# Altium schematic symbol library beagle_sdr9_1.SCHLIB: 62 symbols (part 1 of 2)
Pins are listed as number, name and electrical type; pins without a type are passive.

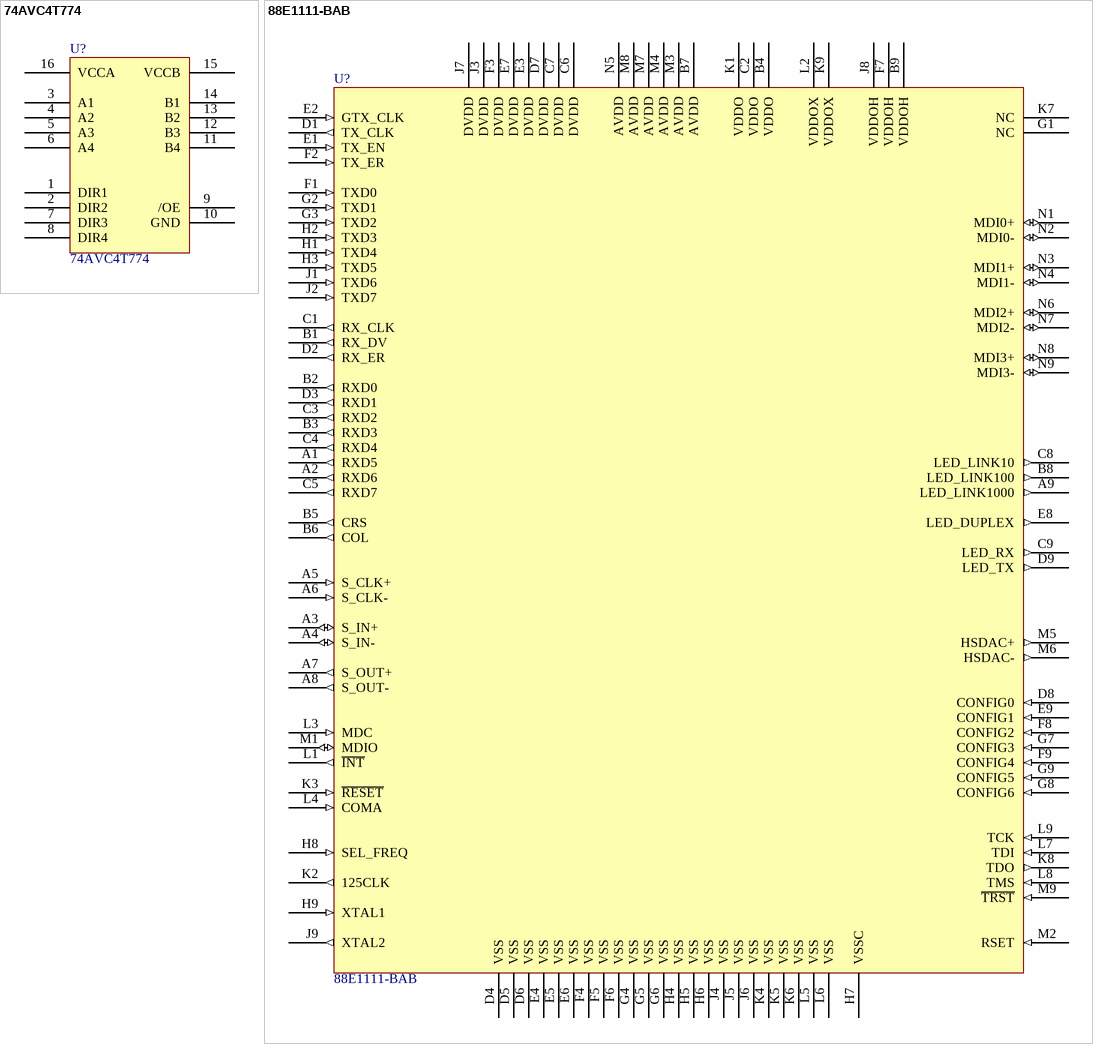
[diagram p0: symbols 74AVC4T774 to 88E1111-BAB]

## 74AVC4T774
designator U?
footprint TSSOP65P640X120-16N (TSSOP, 16 Leads, Body 5.1x4.5mm (max), Pitch 0.65mm, IPC Medium Density)
pins: 1 DIR1, 2 DIR2, 3 A1, 4 A2, 5 A3, 6 A4, 7 DIR3, 8 DIR4, 9 /OE, 10 GND, 11 B4, 12 B3, 13 B2, 14 B1, 15 VCCB, 16 VCCA

## 88E1111-BAB
designator U?
88E1111-BAB Gigabit Ethernet Transceiver (TFBGA package); Manufacturer: Marvell; Unit Cost: 14.038961038961; Part Number: 88E1111-BAB; Category: Integrated Circuit; Subcategory: Ethernet; Manufacturer Part Number: 88E1111-BAB; Supplier: Avnet; Supplier Part Number: 88E1111B2BAB1C000P123
footprint BGA_117_MARVELL
signal-integrity model Model Name (Model Description)
pins: A1 RXD5 (out), A2 RXD6 (out), A3 S_IN+ (io), A4 S_IN- (io), A5 S_CLK+ (in), A6 S_CLK- (in), A7 S_OUT+ (out), A8 S_OUT- (out), A9 LED_LINK1000 (out), B1 RX_DV (out), B2 RXD0 (out), B3 RXD3 (out), B4 VDDO (power), B5 CRS (out), B6 COL (out), B7 AVDD (power), B8 LED_LINK100 (out), B9 VDDOH (power), C1 RX_CLK (out), C2 VDDO (power), C3 RXD2 (out), C4 RXD4 (out), C5 RXD7 (out), C6 DVDD (power), C7 DVDD (power), C8 LED_LINK10 (out), C9 LED_RX (out), D1 TX_CLK (out), D2 RX_ER (out), D3 RXD1 (out), D4 VSS (power), D5 VSS (power), D6 VSS (power), D7 DVDD (power), D8 CONFIG0 (in), D9 LED_TX (out), E1 TX_EN (in), E2 GTX_CLK (in), E3 DVDD (power), E4 VSS (power), E5 VSS (power), E6 VSS (power), E7 DVDD (power), E8 LED_DUPLEX (out), E9 CONFIG1 (in), F1 TXD0 (in), F2 TX_ER (in), F3 DVDD (power), F4 VSS (power), F5 VSS (power), F6 VSS (power), F7 VDDOH (power), F8 CONFIG2 (in), F9 CONFIG4 (in), G1 NC, G2 TXD1 (in), G3 TXD2 (in), G4 VSS (power), G5 VSS (power), G6 VSS (power), G7 CONFIG3 (in), G8 CONFIG6 (in), G9 CONFIG5 (in), H1 TXD4 (in), H2 TXD3 (in), H3 TXD5 (in), H4 VSS (power), H5 VSS (power), H6 VSS (power), H7 VSSC (power), H8 SEL_FREQ (in), H9 XTAL1 (in), J1 TXD6 (in), J2 TXD7 (in), J3 DVDD (power), J4 VSS (power), J5 VSS (power), J6 VSS (power), J7 DVDD (power), J8 VDDOH (power), J9 XTAL2 (out), K1 VDDO (power), K2 125CLK (out), K3 ~{RESET} (in), K4 VSS (power), K5 VSS (power), K6 VSS (power), K7 NC, K8 TDO (out), K9 VDDOX (power), L1 ~{INT} (out), L2 VDDOX (power), L3 MDC (in), L4 COMA (in), L5 VSS (power), L6 VSS (power), L7 TDI (in), L8 TMS (in), L9 TCK (in), M1 MDIO (io), M2 RSET (in), M3 AVDD (power), M4 AVDD (power), M5 HSDAC+ (out), M6 HSDAC- (out), M7 AVDD (power), M8 AVDD (power), M9 ~{TRST} (in), N1 MDI0+ (io), N2 MDI0- (io), N3 MDI1+ (io), N4 MDI1- (io), N5 AVDD (power), N6 MDI2+ (io), N7 MDI2- (io), N8 MDI3+ (io), N9 MDI3- (io)

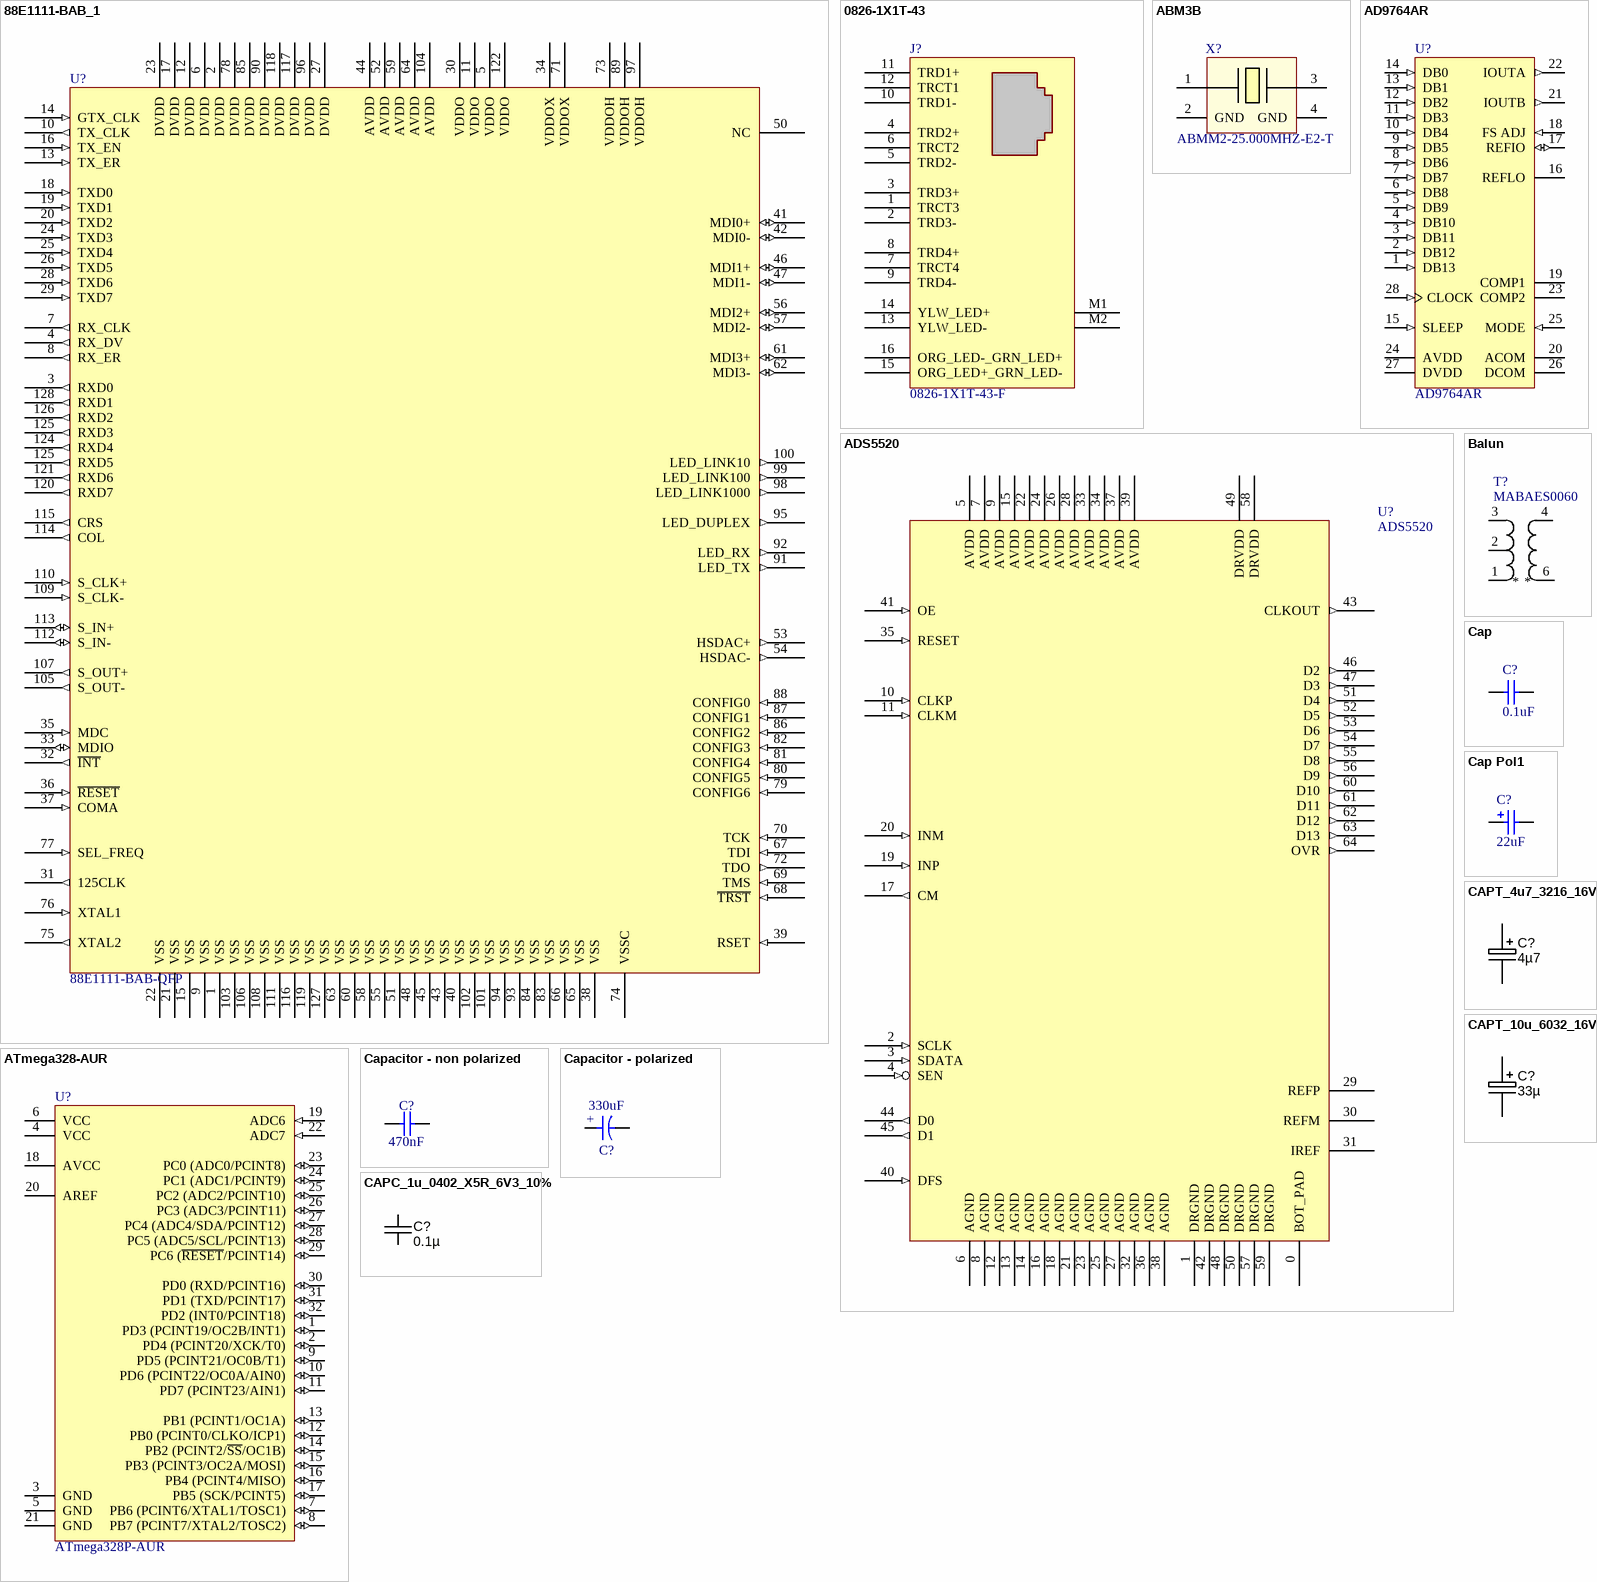
[diagram p1: symbols 88E1111-BAB_1 to CAPT_10u_6032_16V]

## 88E1111-BAB_1
designator U?, comment 88E1111-BAB-QFP
88E1111-BAB Gigabit Ethernet Transceiver (LQFP package); Manufacturer: Marvell; Unit Cost: 14.038961038961; Part Number: 88E1111-BAB; Category: Integrated Circuit; Subcategory: Ethernet; Manufacturer Part Number: 88E1111-BAB; Supplier: Avnet; Supplier Part Number: 88E1111B2BAB1C000P123
footprint LQFP128-20X14X16 (Footprint not found)
signal-integrity model Model Name (Model Description)
pins: 1 VSS (power), 2 DVDD (power), 3 RXD0 (out), 4 RX_DV (out), 5 VDDO (power), 6 DVDD (power), 7 RX_CLK (out), 8 RX_ER (out), 9 VSS (power), 10 TX_CLK (out), 11 VDDO (power), 12 DVDD (power), 13 TX_ER (in), 14 GTX_CLK (in), 15 VSS (power), 16 TX_EN (in), 17 DVDD (power), 18 TXD0 (in), 19 TXD1 (in), 20 TXD2 (in), 21 VSS (power), 22 VSS (power), 23 DVDD (power), 24 TXD3 (in), 25 TXD4 (in), 26 TXD5 (in), 27 DVDD (power), 28 TXD6 (in), 29 TXD7 (in), 30 VDDO (power), 31 125CLK (out), 32 ~{INT} (out), 33 MDIO (io), 34 VDDOX (power), 35 MDC (in), 36 ~{RESET} (in), 37 COMA (in), 38 VSS (power), 39 RSET (in), 40 VSS (power), 41 MDI0+ (io), 42 MDI0- (io), 43 VSS (power), 44 AVDD (power), 45 VSS (power), 46 MDI1+ (io), 47 MDI1- (io), 48 VSS (power), 50 NC, 51 VSS (power), 52 AVDD (power), 53 HSDAC+ (out), 54 HSDAC- (out), 55 VSS (power), 56 MDI2+ (io), 57 MDI2- (io), 58 VSS (power), 59 AVDD (power), 60 VSS (power), 61 MDI3+ (io), 62 MDI3- (io), 63 VSS (power), 64 AVDD (power), 65 VSS (power), 66 VSS (power), 67 TDI (in), 68 ~{TRST} (in), 69 TMS (in), 70 TCK (in), 71 VDDOX (power), 72 TDO (out), 73 VDDOH (power), 74 VSSC (power), 75 XTAL2 (out), 76 XTAL1 (in), 77 SEL_FREQ (in), 78 DVDD (power), 79 CONFIG6 (in), 80 CONFIG5 (in), 81 CONFIG4 (in), 82 CONFIG3 (in), 83 VSS (power), 84 VSS (power), 85 DVDD (power), 86 CONFIG2 (in), 87 CONFIG1 (in), 88 CONFIG0 (in), 89 VDDOH (power), 90 DVDD (power), 91 LED_TX (out), 92 LED_RX (out), 93 VSS (power), 94 VSS (power), 95 LED_DUPLEX (out), 96 DVDD (power), 97 VDDOH (power), 98 LED_LINK1000 (out), 99 LED_LINK100 (out), 100 LED_LINK10 (out), 101 VSS (power), 102 VSS (power), 103 VSS (power), 104 AVDD (power), 105 S_OUT- (out), 106 VSS (power), 107 S_OUT+ (out), 108 VSS (power), 109 S_CLK- (in), 110 S_CLK+ (in), 111 VSS (power), 112 S_IN- (io), 113 S_IN+ (io), 114 COL (out), 115 CRS (out), 116 VSS (power), 117 DVDD (power), 118 DVDD (power), 119 VSS (power), 120 RXD7 (out), 121 RXD6 (out), 122 VDDO (power), 124 RXD4 (out), 125 RXD5 (out), 125 RXD3 (out), 126 RXD2 (out), 127 VSS (power), 128 RXD1 (out)

## 0826-1X1T-43
designator J?, comment 0826-1X1T-43-F
Bel Fuse 0826-1X1T-43-F Gigabit RJ45 jack with magnetics & LEDs; Unit Cost: 4.42; Part Number: 0826-1X1T-43-F; Category: Connector; Subcategory: RJ45; Manufacturer: Bel Fuse; Manufacturer Part Number: 0826-1X1T-43-F; Supplier: Digikey; Supplier Part Number: 507-1432-ND; RoHS: Yes
footprint BELFUSE_0826-1X1T-43-F
pins: 1 TRCT3, 2 TRD3-, 3 TRD3+, 4 TRD2+, 5 TRD2-, 6 TRCT2, 7 TRCT4, 8 TRD4+, 9 TRD4-, 10 TRD1-, 11 TRD1+, 12 TRCT1, 13 YLW_LED-, 14 YLW_LED+, 15 ORG_LED+_GRN_LED-, 16 ORG_LED-_GRN_LED+, M1, M2

## ABM3B
designator X?, comment ABMM2-25.000MHZ-E2-T
25MHz 18pF 20ppm crystal (surface mount); Manufacturer: Abracon; Unit Cost: 1.28; Part Number: ABMM2-25.000MHZ-E2-T; Category: Semiconductor; Subcategory: Crystal; Manufacturer Part Number: ABMM2-25.000MHZ-E2-T; Supplier: Digikey; Supplier Part Number: 535-9640-1-ND
footprint XTAL_SMD_ABM3B
pins: 1, 2 GND, 3, 4 GND

## AD9764AR
designator U?
Single 14-Bit TxDAC, 125 Msps, -40 to +85 degC, RW-28, Tube; ADI Part Number: AD9764; Manufacturer: Analog Devices; # DAC Outputs: 1; Max V+: 5.5V; Op Pwr Diss: 170mW; Resolution (Bits): 14; Settling Time: 35ns; Single Supply: Yes; DatasheetVersion: Rev.B; PackageVersion: 060706-A; PackageReference: RW-28; PackageDescription: 28-Lead Standard Small Outline Package [SOIC_W]; Packing: Tube; RoHS: N; Mounting Technology: Surface Mount; Code_JEDEC: MS-013-AE; ComponentLink1Description: Manufacturer URL; ComponentLink1URL: http://www.analog.com/en/index.html; ComponentLink2Description: Datasheet; ComponentLink2URL: http://www.analog.com/static/imported-files/data_sheets/AD9764.pdf; ComponentLink3Description: URL Link1; ComponentLink3URL: Product URL:http://www.analog.com/en/digital-to-analog-converters/da-converters/ad9764/products/product.html
footprint TSSOP-28
footprint RW-28_L (SOIC, 28-Leads, Body 17.9x7.5mm, Pitch 1.27mm, IPC High Density)
footprint RW-28_M (SOIC, 28-Leads, Body 17.9x7.5mm, Pitch 1.27mm, IPC Low Density)
pins: 1 DB13 (in) "Most Significant Data Bit 13 (MSB).", 2 DB12 (in) "Data Bit 12.", 3 DB11 (in) "Data Bit 11.", 4 DB10 (in) "Data Bit 10.", 5 DB9 (in) "Data Bit 9.", 6 DB8 (in) "Data Bit 8.", 7 DB7 (in) "Data Bit 7.", 8 DB6 (in) "Data Bit 6.", 9 DB5 (in) "Data Bit 5.", 10 DB4 (in) "Data Bit 4.", 11 DB3 (in) "Data Bit 3.", 12 DB2 (in) "Data Bit 2.", 13 DB1 (in) "Data Bit 1.", 14 DB0 (in) "Least Significant Data Bit 0 (LSB).", 15 SLEEP (in) "Power-Down Control Input. Active High. Contains active pull-down circuit, thus may be left unterminated if not used.", 16 REFLO "Reference Ground when Internal 1.2 V Reference Used. Connect to AVDD to disable internal reference.", 17 REFIO (io) "Reference Input/Output. Serves as reference input when internal reference disabled (i.e., Tie REFLO to AVDD). Serves as 1.2 V reference output when internal reference activated (i.e., Tie REFLO to ACOM). Requires 0.1 µF (See Datasheet)", 18 FS ADJ (in) "Full-Scale Current Output Adjust.", 19 COMP1 "Bandwidth/Noise Reduction Node. Add 0.1 µF to AVDD for optimum performance.", 20 ACOM (power) "Analog Common.", 21 IOUTB (out) "Complementary DAC Current Output. Full-scale current when all data bits are 0s.", 22 IOUTA (out) "DAC Current Output. Full-scale current when all data bits are 1s.", 23 COMP2 "Internal Bias Node for Switch Driver Circuitry. Decouple to ACOM with 0.1 µF capacitor.", 24 AVDD (power) "Analog Supply Voltage (+2.7 V to +5.5 V).", 25 MODE (in), 26 DCOM (power) "Digital Common.", 27 DVDD (power) "Digital Supply Voltage (+2.7 V to +5.5 V).", 28 CLOCK (in) "Clock Input.  Data latched on positive edge of clock."

## ADS5520
designator U?
ADC 12BIT 125MSPS; Manufacturer: Texas Instruments; Manufacturer Part Number: ADS5520IPAP; Distributor: Digikey; Distributor Part Number: 296-17702-ND
footprint HQFP64
pins: 0 BOT_PAD (power), 1 DRGND (power), 2 SCLK (in), 3 SDATA (in), 4 SEN (in), 5 AVDD (power), 6 AGND (power), 7 AVDD (power), 8 AGND (power), 9 AVDD (power), 10 CLKP (in), 11 CLKM (in), 12 AGND (power), 13 AGND (power), 14 AGND (power), 15 AVDD (power), 16 AGND (power), 17 CM (out), 18 AGND (power), 19 INP (in), 20 INM (in), 21 AGND (power), 22 AVDD (power), 23 AGND (power), 24 AVDD (power), 25 AGND (power), 26 AVDD (power), 27 AGND (power), 28 AVDD (power), 29 REFP, 30 REFM, 31 IREF, 32 AGND (power), 33 AVDD (power), 34 AVDD (power), 35 RESET (in), 36 AGND (power), 37 AVDD (power), 38 AGND (power), 39 AVDD (power), 40 DFS (in), 41 OE (in), 42 DRGND (power), 43 CLKOUT (out), 44 D0 (out), 45 D1 (out), 46 D2 (out), 47 D3 (out), 48 DRGND (power), 49 DRVDD (power), 50 DRGND (power), 51 D4 (out), 52 D5 (out), 53 D6 (out), 54 D7 (out), 55 D8 (out), 56 D9 (out), 57 DRGND (power), 58 DRVDD (power), 59 DRGND (power), 60 D10 (out), 61 D11 (out), 62 D12 (out), 63 D13 (out), 64 OVR (out)

## ATmega328-AUR
designator U?, comment ATmega328P-AUR
8-bit AVR Microcontroller, 32KB Flash, 1KB EEPROM, 2KB SRAM, 32-pin TQFP, Industrial Grade (-40°C to 85°C); Published: 1-Apr-2010; DatasheetVersion: revA, Jan-2010; PackageVersion: revB, Oct-2001; PackageReference: 32A; Publisher: Altium Limited; PackageDescription: 32-Lead, 7x7x1.0 mm Body, 0.8mm Lead Pitch, Thin Profile Plastic Quad Flat Package (TQFP); Supplier 1: Digi-Key; Supplier Part Number 1: ATMEGA328P-AUR-ND; Supplier 2: Mouser; Supplier Part Number 2: 556-ATMEGA328P-AUR; Code_JEDEC: MS-026-ABA; ComponentLink1Description: Manufacturer Link; ComponentLink1URL: http://www.atmel.com/products/avr/default.asp?; ComponentLink2Description: ATmega48A/48PA/88A/88PA/168A/168PA/328/328P Datasheet; ComponentLink2URL: http://www.atmel.com/dyn/resources/prod_documents/8271.pdf; ComponentLink3Description: ATmega48A/48PA/88A/88PA/168A/168PA/328/328P Summary; ComponentLink3URL: http://www.atmel.com/dyn/resources/prod_documents/8271S.pdf; ComponentLink4Description: Atmel.com Home; ComponentLink4URL: http://www.atmel.com
footprint 32A_N (Thin QFP, 32-Leads, Body 7x7mm, Pitch 0.8mm, IPC Medium Density)
footprint 32A_L (Thin QFP, 32-Leads, Body 7x7mm, Pitch 0.8mm, IPC High Density)
footprint 32A_M (Thin QFP, 32-Leads, Body 7x7mm, Pitch 0.8mm, IPC Low Density)
pins: 1 PD3 (PCINT19/OC2B/INT1) (io), 2 PD4 (PCINT20/XCK/T0) (io), 3 GND (power), 4 VCC (power), 5 GND (power), 6 VCC (power), 7 PB6 (PCINT6/XTAL1/TOSC1) (io), 8 PB7 (PCINT7/XTAL2/TOSC2) (io), 9 PD5 (PCINT21/OC0B/T1) (io), 10 PD6 (PCINT22/OC0A/AIN0) (io), 11 PD7 (PCINT23/AIN1) (io), 12 PB0 (PCINT0/CLKO/ICP1) (io), 13 PB1 (PCINT1/OC1A) (io), 14 PB2 (PCINT2/~{SS}/OC1B) (io), 15 PB3 (PCINT3/OC2A/MOSI) (io), 16 PB4 (PCINT4/MISO) (io), 17 PB5 (SCK/PCINT5) (io), 18 AVCC (power), 19 ADC6 (in), 20 AREF, 21 GND (power), 22 ADC7 (in), 23 PC0 (ADC0/PCINT8) (io), 24 PC1 (ADC1/PCINT9) (io), 25 PC2 (ADC2/PCINT10) (io), 26 PC3 (ADC3/PCINT11) (io), 27 PC4 (ADC4/SDA/PCINT12) (io), 28 PC5 (ADC5/SCL/PCINT13) (io), 29 PC6 (~{RESET}/PCINT14) (io), 30 PD0 (RXD/PCINT16) (io), 31 PD1 (TXD/PCINT17) (io), 32 PD2 (INT0/PCINT18) (io)

## Balun
designator T?, comment MABAES0060
Manufacturer: Mini-Circuits; Part Description: RF balun 0.3-200Mhz; Manufacturer Part Number 1: MABAES0060; Supplier Part Number 1: 1465-1317-1-ND; Supplier 1: digikey
footprint MABAES0060
pins: 1, 2, 3, 4, 6

## Cap
designator C?, comment 0.1uF
Capacitor; Manufacturer: Panasonic; Manufacturer Part Number: ECJ-2VF1C104Z; Published: 8-Jun-2000; Revision: July-2002: Re-released for DXP Platform.; Publisher: Altium Limited; Value: 0.1uF; Distributor: Digikey; Distributor Part Number: PCC1843CT-ND
footprint CC2012-0805
footprint CAPC1005X55N
pins: 1, 2

## Cap Pol1
designator C?, comment 22uF
Polarized Capacitor (Radial); Manufacturer: Panasonic; Manufacturer Part Number: ECE-A1HKA220; Published: 8-Jun-2000; Revision: July-2002: Re-released for DXP Platform.; Publisher: Altium Limited; Value: 22uF; Distributor: Digikey; Distributor Part Number: P837-ND
footprint CAPMP3216X180N (Capacitor, polarized, Molded Body, EIA 535BAAC size A; 3.20mm L X 1.60mm W X 1.80mm H)
pins: 1, 2

## Capacitor - non polarized
designator C?, comment 470nF
Non-polarised capacitor; Part Number: CC0201_470NF_4V_20%_X5R; Part Description: SMD Multilayer Chip Ceramic Capacitor; Manufacturer: GENERIC; Manufacturer1 Part Number: AMK063BJ474MP-F; Voltage: 4V; TC: X5R; Tolerance: ±20%; Component Kind: Standard; Component Type: Standard; Footprint: CAPC0603X33N; Pin Count: 2; Value: 470nF; Status: Not Recommended; Manufacturer Part Number: CC0201_470NF_4V_20%_X5R; Case: 0201; Mounted: Yes; Socket: No; SMD: Yes; Sense: No; Manufacturer1 Example: TAIYO YUDEN; Manufacturer1 ComponentHeight: 0.33mm; HelpURL: \\cern.ch\dfs\Applications\Altium\Datasheets\CC0201_X5R_TAIYO-YUDEN_STANDARD-CLASS2.pdf; Author: CERN DEM JLC; CreateDate: 27.05.2010; LatestRevisionDate: 27.05.2010
footprint CAP_CER_0402_KEMET (Chip Capacitor, 2-Leads, Body 1.0x0.5mm, IPC Medium Density)
pins: 1, 2

## Capacitor - polarized
designator C?, comment 330uF
Polarised capacitor; Part Number: CTE7343-19_330UF_2.5V_20%_LESR0025_KEMET_T520; Part Description: Low ESR 0R025 Tantalum Chip Capacitor; Manufacturer: KEMET; Manufacturer Part Number: T520V337M2R5ATE025; Voltage: 2.5V; Tolerance: ±20%; Component Kind: Standard; Component Type: Standard; Footprint: CAPMP7343X190N; Pin Count: 2; Value: 330uF; Status: None; Case: V; Mounted: Yes; Socket: No; SMD: Yes; Sense: No; ComponentHeight: 1.9mm; HelpURL: \\cern.ch\dfs\Applications\Altium\Datasheets\CTE-LESR_KEMET_T520.pdf; Author: CERN DEM MR; CreateDate: 23.03.2016; LatestRevisionDate: 23.03.2016
footprint CAP_TANT_D_KEMET
pins: 1, 2
text: +

## CAPC_1u_0402_X5R_6V3_10%
designator C?, comment 0.1µ
Capacitor SMD Cer 1uF 10% 16V X5R 0402; Manufacturer 1: AVX Corporation; Manufacturer Part Number 1: 04026D105KAT2A; Ratings: 6.3V; X5R; SCDType: spec; Tolerance: ±10%; Operating Temperature: -55°C ~ 125°C; Package / Case: 0402 (1005 Metric); Size / Dimension: 0.039" L x 0.020" W (1.00mm x 0.50mm); Supplier 1: Digi-Key; Supplier Part Number 1: 478-2583-1-ND; RoHS 1: RoHS Compliant; ComponentLink1URL: http://www.avx.com/docs/Catalogs/cx5r.pdf; ComponentLink1Description: http://www.avx.com/docs/Catalogs/cx5r.pdf; Supplier 2: Digi-Key; Supplier Part Number 2: 311-1438-1-ND; Manufacturer 2: Yageo; Manufacturer Part Number 2: CC0402KRX5R5BB105; RoHS 2: RoHS Compliant; ComponentLink2URL: http://www.yageo.com/documents/recent/UPY-GPHC_X5R_4V-to-50V_12.pdf; ComponentLink2Description: http://www.yageo.com/documents/recent/UPY-GPHC_X5R_4V-to-50V_12.pdf; Supplier 3: Digi-Key; Supplier Part Number 3: 1276-1010-1-ND; Manufacturer 3: Samsung Electro-Mechanics America, Inc; Manufacturer Part Number 3: CL05A105KQ5NNNC; RoHS 3: RoHS Compliant; ComponentLink3URL: http://www.samsungsem.com/servlet/FileDownload?path=productsearch&sname=CL05A105KQ5NNNC.pdf&oname=CL05A105KQ5NNNC.pdf; ComponentLink3Description: http://www.samsungsem.com/servlet/FileDownload?path=productsearch&sname=CL05A105KQ5NNNC.pdf&oname=CL05A105KQ5NNNC.pdf; Supplier 4: Digi-Key; Supplier Part Number 4: 445-4998-1-ND; Manufacturer 4: TDK Corporation; Manufacturer Part Number 4: C1005X5R0J105K050BB; RoHS 4: RoHS Compliant; ComponentLink4URL: http://product.tdk.com/capacitor/mlcc/en/documents/mlcc_commercial_general_en.pdf; ComponentLink4Description: http://product.tdk.com/capacitor/mlcc/en/documents/mlcc_commercial_general_en.pdf; Supplier 5: Digi-Key; Supplier Part Number 5: 490-1320-1-ND; Manufacturer 5: Murata Electronics North America; Manufacturer Part Number 5: GRM155R60J105KE19D; RoHS 5: RoHS Compliant; ComponentLink5URL: http://www.murata.com/products/catalog/pdf/c02e.pdf; ComponentLink5Description: http://www.murata.com/products/catalog/pdf/c02e.pdf; Value: 0.1µ
footprint CAPC1005X55N (Chip Capacitor, Body 1.0x0.5mm, 0402, IPC Medium Density)
pins: 1, 2

## CAPT_4u7_3216_16V
designator C?, comment 4µ7
Capacitor SMD Tantalum 4.7uF 10% 16V 3216-18; Manufacturer 1: Vishay/Sprague; Manufacturer Part Number 1: 293D475X9016A2TE3; SCDType: undef; Package / Case: EIA 535BAAC size A; Ratings: 16V; Tolerance: ±10%; Material: Tantalum; Supplier 1: Digi-Key; Supplier Part Number 1: 718-1148-1-ND; Value: 4µ7
footprint CAPMP3216X180N (Capacitor, polarized, Molded Body, EIA 535BAAC size A; 3.20mm L X 1.60mm W X 1.80mm H)
pins: 1, 2

## CAPT_10u_6032_16V
designator C?, comment value 33µ  (hidden comment: approved sub OK)
Capacitor SMD Tantalum 10uF 20% 16V EIA 6032-28; Manufacturer 1: Vishay/Sprague; Manufacturer Part Number 1: 293D106X0016C2TE3; SCDType: undef; Package / Case: EIA 6032-28; Tolerance: ±20%; Ratings: 16V; Material: Tantalum; Supplier 1: Digi-Key; Supplier Part Number 1: 718-1042-1-ND
footprint CAPMP6032X280N (Capacitor, polarized, Molded Body, EIA 535BAAC size C; 6.00mm L X 3.20mm W X 2.80mm H)
pins: 1, 2

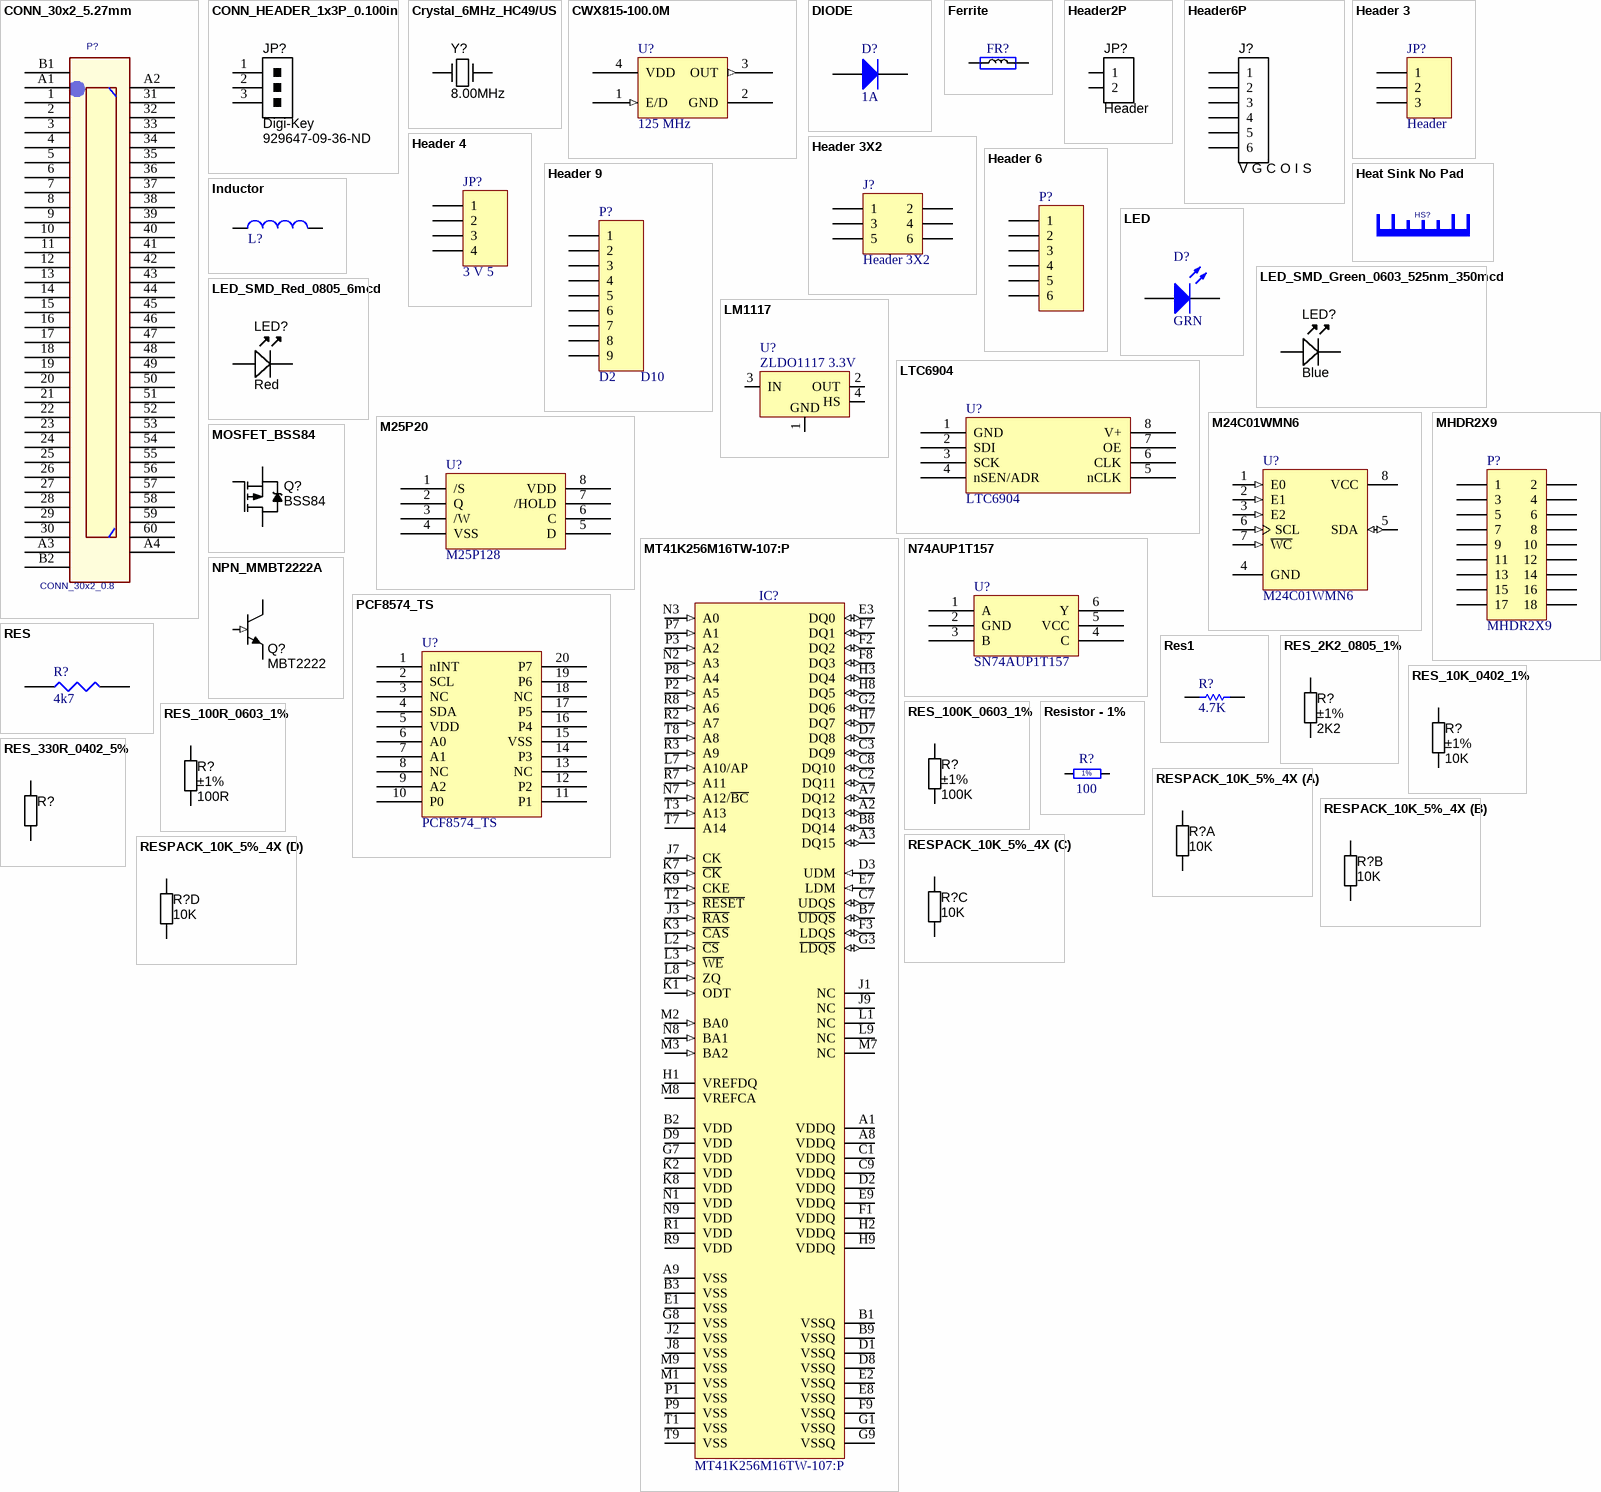
[diagram p2: symbols CONN_30x2_5.27mm to RESPACK_10K_5%_4X]

## CONN_30x2_5.27mm
designator P?, comment CONN_30x2_0.8
Hirose FX18-60S-0.8SV15
footprint FX18-60S-0.8SV15
pins: 1, 2, 3, 4, 5, 6, 7, 8, 9, 10, 11, 12, 13, 14, 15, 16, 17, 18, 19, 20, 21, 22, 23, 24, 25, 26, 27, 28, 29, 30, 31, 32, 33, 34, 35, 36, 37, 38, 39, 40, 41, 42, 43, 44, 45, 46, 47, 48, 49, 50, 51, 52, 53, 54, 55, 56, 57, 58, 59, 60, A1, A2, A3, A4, B1, B2

## CONN_HEADER_1x3P_0.100in
designator JP?, comment Supplier 1: Digi-Key  Supplier Part Number 1: 929647-09-36-ND  (hidden comment: R T G)
Pin Header, THT, Single-row, 2.54mm pitch; Manufacturer 1: 3M; Manufacturer Part Number 1: 929647-09-36-I; Pitch: 0.100" (2.54mm); Value: Single-row, 3 positions; QtyOverride: 0.1; SCDType: undef; Category: Connectors; Mounting Type: Through Hole; Terminal Block Type: Header, Male Pins, Single; Package / Case: Pin header; 2.54mm pitch
footprint 1x3POS_HEADER (Connector Header, Single-row 3-position, 0.100" pitch)
pins: 1, 2, 3

## Crystal_6MHz_HC49/US
designator Y?, comment 8.00MHz
Resonator Ceramic 8.00 MHz 30ppm; Manufacturer 1: CTS-Frequency Controls; Manufacturer Part Number 1: ATS080BSM-1; Frequency: 8MHz; Frequency Stability: ±50ppm; Load Capacitance: 18pF; Operating Mode: Fundamental; Parameter Name: 0.169" (4.30mm); Package / Case: HC49/US-SM; Ratings: 8.00 MHz; Supplier 1: Digi-Key; Type: 8 MHz Crystal; Frequency Tolerance: ±30ppm; Operating Temperature: -20°C ~ 70°C; Mounting Type: Surface Mount; Size / Dimension: 0.437" L x 0.190" W (11.10mm x 4.83mm); ComponentLink1URL: http://www.ctscorp.com/components/Datasheets/008-0309-0.pdf; ComponentLink1Description: http://www.ctscorp.com/components/Datasheets/008-0309-0.pdf
footprint CRYSTAL_HC49-US-SM (SMD Crystal HC49/US-SM package)
pins: 1 IN, 2 OUT

## CWX815-100.0M
designator U?, comment 125 MHz
CWX815-125.0M; Part No.: CW585TR-ND; Manufacturer: Citizen America; Manufacturer Part Number: CWX815-100.0M; Distributor: Digikey
footprint CSX750FB (CRYSTAL CLOCK OSCILLATORS; 4 Leads; Body 7 x 5 x 1.6 mm)
pins: 1 E/D (in), 2 GND, 3 OUT (out), 4 VDD (power)

## DIODE
designator D?, comment 1A
DB2J31700L 30V 1A Diode (SMINI2 package); Manufacturer: Panasonic; Unit Cost: 0.296; Part Number: DB2J31700L; Category: Semiconductor; Subcategory: Diode; Manufacturer Part Number: DB2J31700L; Supplier: Digikey; Supplier Part Number: DB2J31700LCT-ND; RoHS: Yes; Stock Quantity: 10
footprint DIODE_SMINI2-F5-B
pins: 1 K, 2 A

## Ferrite
designator FR?  (value not drawn)
Manufacturer Part Number 1: BK0603TS601-T; Manufacturer: Taiyo Yuden; Part Description: FERRITE BEAD 600 OHM 0201 1LN; DC Resistance (DCR): 750 mOhm Max; Filter Type: Differential Mode - Single; Impedance @ Frequency: 600 Ohm @ 100MHz; Current Rating: 270mA; Value: 600R@100MHz; Supplier 1: Digi-Key; Supplier Part Number 1: 587-3277-1-ND; Size / Dimension: 0.024" L x 0.012" W (0.60mm x 0.30mm); Package / Case: 0201 (0603 Metric); Height (Max): 0.013" (0.33mm); Mounting Type: Surface Mount; Packaging: Cut Tape (CT); RoHS: RoHS Compliant; Category: Filters
footprint C0603 (0603 Generic)
pins: 1, 2

## Header2P
designator JP?, comment Header  (no BOM)
12V  G
footprint HDR_1x2_Offset
footprint HDR_1X2X276
pins: 1, 2

## Header6P
designator J?, comment V G C O I S  (no BOM)
Header, 6-pin, FPGA_JTAG
footprint HDR1X6 (Connector; Header; 6 Position)
pins: 1, 2, 3, 4, 5, 6

## Header 3
designator JP?, comment Header
Header, 3-Pin; LatestRevisionDate: 17-Jul-2002; LatestRevisionNote: Re-released for DXP Platform.; Publisher: Altium Limited
footprint HDR1X3 (Connector; Header; 3 Position)
signal-integrity model Connector
pins: 1, 2, 3

## Header 3X2
designator J?
Header, 3-Pin, Dual row; LatestRevisionDate: 17-Jul-2002; LatestRevisionNote: Re-released for DXP Platform.; Publisher: Altium Limited
footprint HDR2X3 (Connector; Header; 3x2 Position)
signal-integrity model Connector
pins: 1, 2, 3, 4, 5, 6

## Header 4
designator JP?, comment 3 V 5
Header, 4-Pin; LatestRevisionDate: 17-Jul-2002; LatestRevisionNote: Re-released for DXP Platform.; Publisher: Altium Limited
footprint HDR1X4 (Connector; Header; 4 Position)
signal-integrity model Connector
pins: 1, 2, 3, 4

## Header 6
designator P?
Header, 6-Pin; LatestRevisionDate: 17-Jul-2002; LatestRevisionNote: Re-released for DXP Platform.; Publisher: Altium Limited
footprint HDR1X6 (Connector; Header; 6 Position)
signal-integrity model Connector
pins: 1, 2, 3, 4, 5, 6

## Header 9
designator P?, comment D2       D10
Header, 9-Pin; LatestRevisionDate: 17-Jul-2002; LatestRevisionNote: Re-released for DXP Platform.; Publisher: Altium Limited
footprint HDR1X9 (Connector; Header; 9 Position)
signal-integrity model Connector
pins: 1, 2, 3, 4, 5, 6, 7, 8, 9

## Heat Sink No Pad
designator HS?  (value not drawn)
Heat Sink Without Pad; Manufacturer: Fischer Elektronik; Manufacturer Part Number: ICK BGA 23 x 23 x 10; Part Description: 23 x 23 x 10 mm, heatsink for IC design BGA and others; ComponentHeight: 10 mm; HelpURL: http://www.fischerelektronik.de/web_fischer/en_GB/heatsinks/B02/Heatsinks%20for%20BGAs/PR/ICKBGA23x23x10_/$productCard/parameters/datasheet.xhtml
footprint ICK BGA 23 x 23 x 10 (23 x 23 x 10 mm, heatsink for IC design BGA and others)

## Inductor
designator L?  (value not drawn)
Ferrite Bead 100mR 500mA (0603 package); Part Number: BEAD-500mA-0603; Manufacturer: Panasonic; Manufacturer Part Number: EXC-3BP121H; Unit Cost: 0.172; Category: Windings; Subcategory: Bead; Supplier: Digikey; Supplier Part Number: P10750CT-ND
footprint IND_CHIP_0603_PAN
pins: 1, 2

## LED
designator D?, comment GRN
Green LED, diffused, surface mount (0805 package); Part Number: LED-0805-GRN; Manufacturer: OSRAM Opto Semiconductors; Manufacturer Part Number: LG R971; Unit Cost: 0.11; Category: Semiconductor; Subcategory: LED; Supplier: Digikey; Supplier Part Number: 475-1410-1-ND
footprint LED_0805_OSRAM_R97x
pins: 1 K, 2 A

## LED_SMD_Green_0603_525nm_350mcd
designator LED?, comment Blue
LED 0603 SMD Green 525nm 350mcd 20mA; Manufacturer 1: Kingbright; Manufacturer Part Number 1: APT1608ZGCK; Material: InGaN; Ratings: 200mcd min; 350 mcd typ @ 20mA; Voltage - Forward (Vf) @ 10mA: 3.1V; Viewing Angle: 120°; Lens Style/Size: Rectangle with Flat Top, 1.2mm x 0.8mm; Voltage - Forward (Vf) @ 20mA: 3.3V; SCDType: source; Package / Case: 0603 (1608 metric); Color: Green; Current - Test: 20mA; Manufacturer 2: Kingbright Company LLC; Manufacturer Part Number 2: APT1608-WAP24; Supplier 1: Mouser; Supplier Part Number 1: 604-APT1608ZGCK; ComponentLink1URL: http://www.mouser.com/ds/2/216/APT1608ZGCK-262051.pdf; ComponentLink1Description: http://www.mouser.com/ds/2/216/APT1608ZGCK-262051.pdf; ComponentLink2Description: APT1608-WAP24 Datasheet; ComponentLink2URL: \\SVFI2\PBLShare\Eng\Electrical Engineering\Hardware\Altium\Libraries and Templates\Unreleased Components\Part Number Request 2013-10-02\APT1608-WAP24(Ver.1B).pdf
footprint LED-0603-BLUE
pins: A, K

## LED_SMD_Red_0805_6mcd
designator LED?  Color: Red
LED 0805 SMD Red 6mcd 621nm; Manufacturer 1: Lite-On Inc; Manufacturer Part Number 1: LTST-C171EKT; Material: GaAsP on GaP; Ratings: 6 mcd; 621 nm; SCDType: source; Package / Case: 0805; Supplier 1: Digi-Key; Supplier Part Number 1: 160-1422-1-ND; Value: Red
footprint LED-0603-RED
pins: A, K

## LM1117
designator U?, comment ZLDO1117 3.3V
Power
footprint SOT223 (SOT223, 4-Leads, Body 6.7x7.3mm (max), Pitch 2.29mm, IPC Medium Density)
pins: 1 GND (power), 2 OUT (power), 3 IN (power), 4 HS (power)

## LTC6904
designator U?
footprint SOP65P490X109-8N (SOP, 0.65mm pitch, 8 pin, Body 3.0x3.0x1.09mm LWH, IPC Medium Density)
pins: 1 GND, 2 SDI, 3 SCK, 4 nSEN/ADR, 5 nCLK, 6 CLK, 7 OE, 8 V+

## M24C01WMN6
designator U?
1Kbit Serial I2C Bus EEPROM; Published: 24-Aug-2001; LatestRevisionDate: 13-Apr-2006; LatestRevisionNote: IPC-7351 Footprint Added.; DatasheetVersion: Sep-1999; PackageVersion: Jul-1999; PackageReference: SOP8; Publisher: Altium Limited; PackageDescription: 8-Pin Small Outline Integrated Circuit 1.27 mm Pitch; ComponentLink1Description: Manufacturer Link; ComponentLink1URL: http://www.st.com/; ComponentLink2Description: Datasheet; ComponentLink2URL: http://www.st.com/stonline/products/literature/ds/5067/m24c01-r.pdf
footprint SOP8_N (SOIC, 8-Leads, Body 4.9x3.9mm, Pitch 1.27mm, IPC Medium Density)
footprint SOP8_L (SOIC, 8-Leads, Body 4.9x3.9mm, Pitch 1.27mm, IPC High Density)
footprint SOP8_M (SOIC, 8-Leads, Body 4.9x3.9mm, Pitch 1.27mm, IPC Low Density)
3D model SOP8 (8-Pin Small Outline Integrated Circuit 1.27 mm Pitch)
pins: 1 E0 (in), 2 E1 (in), 3 E2 (in), 4 GND (power), 5 SDA (io), 6 SCL (in), 7 ~{WC} (in), 8 VCC (power)

## M25P20
designator U?, comment M25P128
MICRON M25P40 3V 4Mb Serial Flash Embedded  Memory
footprint SOIC127P600X175-8AN (SOIC, 8-Leads, Body 4.9x3.9mm, Pitch 1.27mm, IPC Medium Density)
pins: 1 /S, 2 Q, 3 /W, 4 VSS, 5 D, 6 C, 7 /HOLD, 8 VDD

## MHDR2X9
designator P?
Header, 9-Pin, Dual row; LatestRevisionDate: 17-Jul-2002; LatestRevisionNote: Re-released for DXP Platform.; Publisher: Altium Limited
footprint MHDR2X9 (Connector; Header; 9x2 Position)
signal-integrity model Connector
pins: 1, 2, 3, 4, 5, 6, 7, 8, 9, 10, 11, 12, 13, 14, 15, 16, 17, 18

## MOSFET_BSS84
designator Q?, comment BSS84
MOSFET SMD P-CH 50V 130mA SOT23-3; Manufacturer 1: Fairchild Semiconductor; Ratings: 50V; 130mA; Material: Metal Oxide; FET Type: MOSFET P-Channel, Metal Oxide; FET Feature: Logic Level Gate; Rds On (Max) @ Id, Vgs: 10 Ohm @ 100mA, 5V; Vgs(th) (Max) @ Id: 2V @ 1mA; Gate Charge (Qg) @ Vgs: 1.3nC @ 5V; Input Capacitance (Ciss) @ Vds: 73pF @ 25V; Power - Max: 360mW; SCDType: undef; Package / Case: SOT23-3; Supplier 1: Digi-Key; Supplier Part Number 1: BSS84CT-ND; Manufacturer Part Number 1: BSS84; Drain to Source Voltage (Vdss): 50V; Current - Continuous Drain (Id) @ 25° C: 130mA; Supplier Device Package: SOT-23; ComponentLink1URL: http://www.fairchildsemi.com/ds/BS/BSS84.pdf; ComponentLink1Description: http://www.fairchildsemi.com/ds/BS/BSS84.pdf
footprint SOT23-3 (SOT23, 3 pin)
pins: 1 G, 2 S, 3 D

## MT41K256M16TW-107:P
designator IC?
32 Meg x 16 x 8 Banks DDR3L SDRAM; Part Description: +1.5V, 4Gb (32Meg x 16 x 8 banks) DDR3L SDRAM; Manufacturer: MICRON TECHNOLOGY; PressFit: No; Bonding: No; Part Number: MT41K256M16TW-107:P; Component Kind: Standard; Component Type: Standard; Device: MT41K256M16TW-107:P; Footprint: BGA96C80P9X16_800X1400X120; PackageDescription: BGA 0.8mm, Pitch, Square 96 Pin, 9 Columns x 16 Rows, Body 14mm X 8mm X 1.2mm H; Manufacturer Part Number: MT41K256M16TW-107:P; Pin Count: 96; Case: BGA96; Mounted: Yes; Socket: No; SMD: Yes; Sense: No; ComponentHeight: 1.2mm; HelpURL: \\cern.ch\dfs\Applications\Altium\Datasheets\MT41K256M16TW-107-P.pdf; Author: CERN DEM MR; CreateDate: 2015-12-14; LatestRevisionDate: 2015-12-14
footprint BGA96CP80_16X9_1400X800X120B47N
pins: A1 VDDQ (power), A2 DQ13 (io), A3 DQ15 (io), A7 DQ12 (io), A8 VDDQ (power), A9 VSS (power), B1 VSSQ (power), B2 VDD (power), B3 VSS (power), B7 ~{UDQS} (io), B8 DQ14 (io), B9 VSSQ (power), C1 VDDQ (power), C2 DQ11 (io), C3 DQ9 (io), C7 UDQS (io), C8 DQ10 (io), C9 VDDQ (power), D1 VSSQ (power), D2 VDDQ (power), D3 UDM (in), D7 DQ8 (io), D8 VSSQ (power), D9 VDD (power), E1 VSS (power), E2 VSSQ (power), E3 DQ0 (io), E7 LDM (in), E8 VSSQ (power), E9 VDDQ (power), F1 VDDQ (power), F2 DQ2 (io), F3 LDQS (io), F7 DQ1 (io), F8 DQ3 (io), F9 VSSQ (power), G1 VSSQ (power), G2 DQ6 (io), G3 ~{LDQS} (io), G7 VDD (power), G8 VSS (power), G9 VSSQ (power), H1 VREFDQ (power), H2 VDDQ (power), H3 DQ4 (io), H7 DQ7 (io), H8 DQ5 (io), H9 VDDQ (power), J1 NC, J2 VSS (power), J3 ~{RAS} (in), J7 CK (in), J8 VSS (power), J9 NC, K1 ODT (in), K2 VDD (power), K3 ~{CAS} (in), K7 ~{CK} (in), K8 VDD (power), K9 CKE (in), L1 NC, L2 ~{CS} (in), L3 ~{WE} (in), L7 A10/AP (in), L8 ZQ (in), L9 NC, M1 VSS (power), M2 BA0 (in), M3 BA2 (in), M7 NC, M8 VREFCA (power), M9 VSS (power), N1 VDD (power), N2 A3 (in), N3 A0 (in), N7 A12/~{BC} (in), N8 BA1 (in), N9 VDD (power), P1 VSS (power), P2 A5 (in), P3 A2 (in), P7 A1 (in), P8 A4 (in), P9 VSS (power), R1 VDD (power), R2 A7 (in), R3 A9 (in), R7 A11 (in), R8 A6 (in), R9 VDD (power), T1 VSS (power), T2 ~{RESET} (in), T3 A13 (in), T7 A14, T8 A8 (in), T9 VSS (power)

## N74AUP1T157
designator U?, comment SN74AUP1T157
footprint SOT363 (Small outline 2.1mm L x 1.25mm W x 1mm H)
pins: 1 A, 2 GND, 3 B, 4 C, 5 VCC, 6 Y

## NPN_MMBT2222A
designator Q?, comment MBT2222
Transistor SMD NPN 40V 600mA 250mW SOT23-3; Manufacturer 1: Fairchild Semiconductor; Manufacturer Part Number 1: MMBT2222A; Ratings: 40V; 600mA; 250mW; Material: Si; SCDType: source; Package / Case: SOT-23; Mounting Type: Surface Mount; Supplier 1: Digi-Key; Supplier Part Number 1: MMBT2222AFSTR-ND; Manufacturer 2: NXP Semiconductors; Manufacturer Part Number 2: MMBT2222A; Supplier 2: Digi-Key; Supplier Part Number 2: 568-4509-2-ND; Value: MBT2222
footprint SOT23-3 (SOT23, 3 pin)
pins: 1 B (in), 2 E, 3 C

## PCF8574_TS
designator U?
footprint TSSOP65P640X120-20N (TSSOP, 20-Leads, Body 6.6x4.5mm (max), Pitch 0.65mm, IPC Medium Density)
pins: 1 nINT, 2 SCL, 3 NC, 4 SDA, 5 VDD, 6 A0, 7 A1, 8 NC, 9 A2, 10 P0, 11 P1, 12 P2, 13 NC, 14 P3, 15 VSS, 16 P4, 17 P5, 18 NC, 19 P6, 20 P7

## RES
designator R?  value 4k7  (hidden comment: RES)
4k7 0.1W 5% 0603 thick film resistor; Part Number: RES-TKF-0603-0.1W-4k7; Manufacturer: Yageo; Manufacturer Part Number: RC0603JR-074K7L; Unit Cost: 0.064; Rating: 0.1W; Category: Resistor; Subcategory: ThickFilm; Supplier: Digikey; Supplier Part Number: 311-4.7KGRCT-ND
footprint RES_CHIP_0603 (Chip Resistor, Body 1.6x0.8mm, IPC High Density)
signal-integrity model Guessed Model (Resistor Model Details Guessed by Setup Helper)
pins: 1, 2

## Res1
designator R?, comment 4.7K
Resistor; Manufacturer: Generic Components; Manufacturer: Vishay/Dale; Manufacturer Part Number: CRCW08054K70JNEA; Class I: Passive; Published: 8-Jun-2000; Revision: July-2002: Re-released for DXP Platform.; Publisher: Altium Limited; Class II: Resistor; Value: 4.7K; Distributor: Digikey; Distributor Part Number: 541-4.7KACT-ND
footprint CR2012-0805
footprint RESC1005N
pins: 1, 2

## RES_2K2_0805_1%
designator R?, comment value 2K2  Tolerance: ±1%  (hidden comment: Thick Film)
Resistor SMD chip 2.2k Ohm 0.125W 1% 0805; Manufacturer 1: Vishay/Dale; Manufacturer Part Number 1: CRCW08052K20FKEA; Ratings: 1/8W; SCDType: spec; Supplier 1: Digi-Key; Supplier Part Number 1: 541-2.20KCCT-ND; Package / Case: 0805 (2012 metric)
footprint RESC1005N (Chip Resistor, Body 1.0x0.5mm, EIA 0402, IPC Medium Density)
pins: 1, 2

## RES_10K_0402_1%
designator R?, comment value 10K  Tolerance: ±1%  (hidden comment: Thick Film)
Resistor SMD chip 10k Ohm 0.063W 1% 0402; Manufacturer 1: Vishay Dale; Manufacturer Part Number 1: CRCW040210K0FKED; Ratings: 1/16 W; SCDType: spec; Package / Case: 0402 (1005 Metric); Manufacturer 2: Yageo; Manufacturer Part Number 2: RC0402FR-0710KL; Supplier 1: Digi-Key; Supplier Part Number 1: 541-10.0KLCT-ND; ComponentLink1URL: http://www.vishay.com/doc?20035; ComponentLink1Description: http://www.vishay.com/doc?20035; Supplier 2: Digi-Key; Supplier Part Number 2: 311-10.0KLRCT-ND; ComponentLink2URL: http://www.yageo.com/documents/recent/PYu-RC0402_51_RoHS_L_6.pdf; ComponentLink2Description: http://www.yageo.com/documents/recent/PYu-RC0402_51_RoHS_L_6.pdf
footprint RESC1005X40N (Chip Resistor, Body 1.0x0.5mm, EIA 0402, IPC Medium Density)
pins: 1, 2

## RES_100K_0603_1%
designator R?, comment value 100K  Tolerance: ±1%  (hidden comment: Thick Film)
Resistor SMD chip 100k Ohm 0.1W 1% 0603; Manufacturer 1: Vishay/Dale; Manufacturer Part Number 1: CRCW0603100KFKEA; Ratings: 1/10W; SCDType: spec; Package / Case: 0603 (2012 metric); Supplier 1: Digi-Key; Supplier Part Number 1: 541-100KHCT-ND
footprint RESC1608N (Chip Resistor, Body 1.6x0.8mm, 0603, IPC Medium Density)
pins: 1, 2

## RES_100R_0603_1%
designator R?, comment value 100R  Tolerance: ±1%  (hidden comment: Thick Film)
Resistor SMD chip 100 Ohm 0.1W 1% 0603; Manufacturer 1: Yageo; Manufacturer Part Number 1: RC0603FR-07100RL; Ratings: 1/10 W; SCDType: spec; Package / Case: 0603 (1608 Metric); Supplier 1: Digi-Key; Supplier Part Number 1: 311-100HRCT-ND; ComponentLink1URL: http://industrial.panasonic.com/www-cgi/jvcr13pz.cgi?E+PZ+3+AOA0002+ERJ3EKF1000V+7+WW; ComponentLink1Description: http://industrial.panasonic.com/www-cgi/jvcr13pz.cgi?E+PZ+3+AOA0002+ERJ3EKF1000V+7+WW; Material: Thick Film; Supplier 2: Digi-Key; Supplier Part Number 2: P100HTR-ND; Manufacturer 2: Panasonic - ECG; Manufacturer Part Number 2: ERJ-3EKF1000V
footprint RESC1608X55N (Chip Resistor, Body 1.6x0.8mm, 0603, IPC Medium Density)
pins: 1, 2

## RES_330R_0402_5%
designator R?, comment Thick Film  (value not drawn)
Resistor SMD chip 330 Ohm 0.063W 5% 0402; Manufacturer 1: Yageo; Manufacturer Part Number 1: RC0402JR-07330RL; Ratings: 1/16 W; Package / Case: 0402 (1005 Metric); Tolerance: ±5%; Supplier 1: Digi-Key; Supplier Part Number 1: 311-330JRCT-ND; ComponentLink1URL: http://www.yageo.com/documents/recent/PYu-RC0402_51_RoHS_L_6.pdf; ComponentLink1Description: http://www.yageo.com/documents/recent/PYu-RC0402_51_RoHS_L_6.pdf
footprint RESC1005N (Chip Resistor, Body 1.0x0.5mm, EIA 0402, IPC Medium Density)
pins: 1, 2

## Resistor - 1%
designator R?, comment 100
Resistor - 1%; Part Number: R0402_100R_1%_0.0625W_100PPM; Part Description: General Purpose Thick Film Chip Resistor; Manufacturer: GENERIC; Manufacturer1 Part Number: 232270671001L; Power: 0.0625W; TC: ±100ppm/°C; PressFit: No; Component Kind: Standard; Component Type: Standard; Footprint: RESC1005X40N; Pin Count: 2; Value: 100; Status: Not Recommended; Tolerance: ±1%; Manufacturer Part Number: R0402_100R_1%_0.0625W_100PPM; Case: 0402; Mounted: Yes; Sense: No; Socket: No; SMD: Yes; Manufacturer1 Example: YAGEO PHYCOMP; Manufacturer1 ComponentHeight: 0.4mm; HelpURL: \\cern.ch\dfs\Applications\Altium\Datasheets\R0402_Phycomp_RC0402.pdf; Author: CERN DEM JLC; CreateDate: 03.12.2007; LatestRevisionDate: 17.10.2012; ClassName: Artix
footprint RESC1005X40N (Chip Resistor, Body 1.0x0.5mm, EIA 0402, IPC Medium Density)
pins: 1, 2
text: 1%

## RESPACK_10K_5%_4X
designator R?, comment value 10K  (hidden comment: Film Res Cap)
Resistor array 10K Ohm 4-pack 62.5mW 5% 4x1608 SMD; Manufacturer 1: Yageo; Manufacturer Part Number 1: YC164-JR-0710KL; Ratings: 1/16 W; Number of Resistors: 4; Circuit Type: Isolated; SCDType: source; Package / Case: 1206 (3216 Metric), Convex; Tolerance: ±5%; Number of Pins: 8; Power Per Element: 62.5mW; Mounting Type: Surface Mount; Supplier Device Package: 4 x 0603; Operating Temperature: -55°C ~ 155°C; Supplier 1: Digi-Key; Supplier Part Number 1: YC164J-10KCT-ND; RoHS 1: RoHS Compliant; Size / Dimension: 0.126" L x 0.063" W (3.20mm x 1.60mm); ComponentLink1URL: http://www.yageo.com/documents/recent/PYu-YC_TC164_51_RoHS_L_3.pdf; ComponentLink1Description: http://www.yageo.com/documents/recent/PYu-YC_TC164_51_RoHS_L_3.pdf; Supplier 2: Digi-Key; Supplier Part Number 2: CRA6S810KCT-ND; Manufacturer 2: Vishay Dale; Manufacturer Part Number 2: CRA06S08310K0JTA; RoHS 2: RoHS Compliant; ComponentLink2URL: http://www.vishay.com/doc?31002; ComponentLink2Description: http://www.vishay.com/doc?31002; Supplier 3: Digi-Key; Supplier Part Number 3: RAVF164DJT10K0CT-ND; Manufacturer 3: Stackpole Electronics Inc; Manufacturer Part Number 3: RAVF164DJT10K0; RoHS 3: RoHS Compliant; ComponentLink3URL: http://www.seielect.com/Catalog/SEI-RAVF.pdf; ComponentLink3Description: http://www.seielect.com/Catalog/SEI-RAVF.pdf; Supplier 4: Digi-Key; Supplier Part Number 4: Y9103CT-ND; Manufacturer 4: Panasonic Electronic Components; Manufacturer Part Number 4: EXB-38V103JV; RoHS 4: RoHS Compliant; ComponentLink4URL: http://industrial.panasonic.com/www-cgi/jvcr13pz.cgi?E+PZ+3+AOC0001+EXB38V103JV+7+WW; ComponentLink4Description: http://industrial.panasonic.com/www-cgi/jvcr13pz.cgi?E+PZ+3+AOC0001+EXB38V103JV+7+WW
footprint RESCAXS50P160X320X70-8N (Resistor Pack, Body 1.6x3.2mm, 4x0603, IPC Medium Density)
part A pins: 1, 8
part B pins: 2, 7
part C pins: 3, 6
part D pins: 4, 5

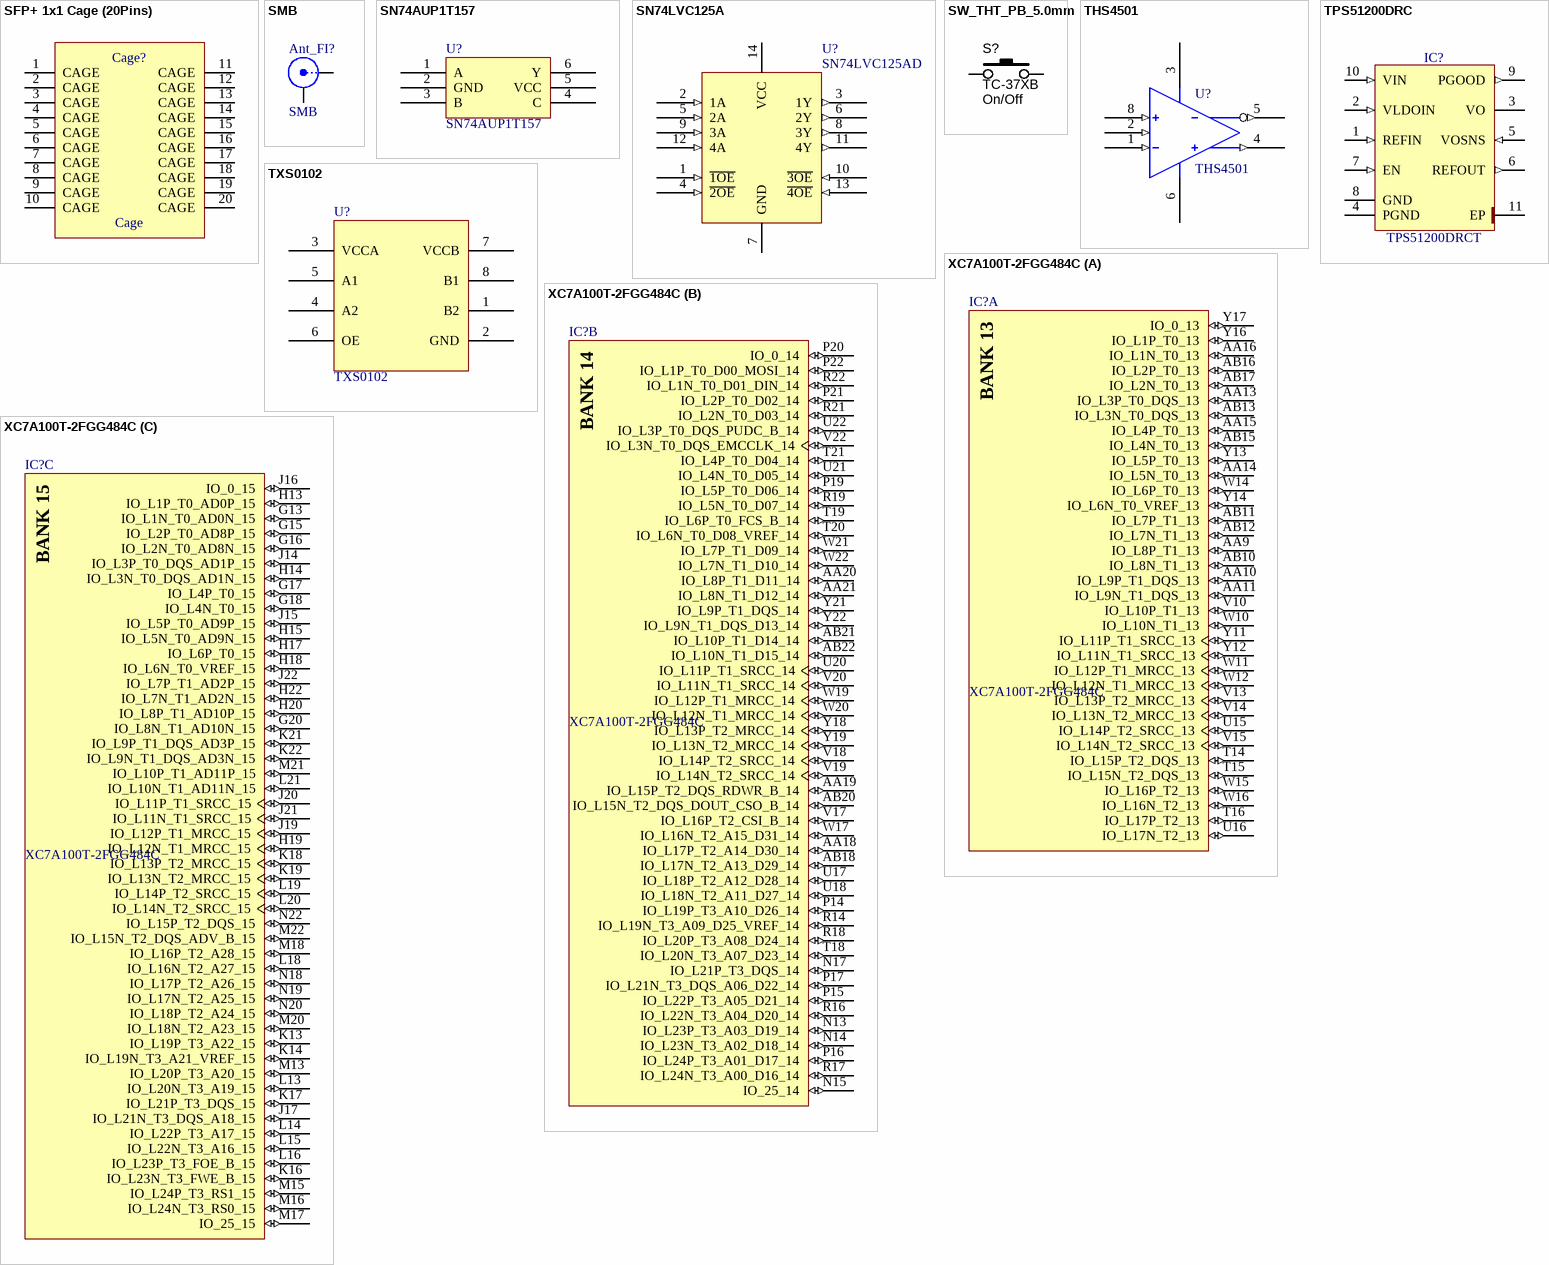
[diagram p3: symbols SFP+ 1x1 Cage (20Pins) to XC7A100T-2FGG484C]

## SFP+ 1x1 Cage (20Pins)
designator Cage?, comment Cage
Anti-noise Cage; Part Number: TYCO_2007198-1; Part Description: 1x1 Press Fit Cage For Use with SFP+ Connector (Small Form-factor Pluggable); Manufacturer: TYCO ELECTRONICS; Manufacturer Part Number: 2007198-1; Component Kind: Standard; Component Type: Standard; Footprint: TYCO_2007198-1; Pin Count: 10; Family: Cage; Mounted: Yes; Socket: No; SMD: No; PressFit: Yes; Sense: No; Status: None; ComponentHeight: 9.7mm; HelpURL: \\cern.ch\dfs\Applications\Altium\Datasheets\TYCO_2007198-1.pdf; Author: CERN DEM JLC; CreateDate: 04.06.2013; LatestRevisionDate: 12.06.2013; ClassName: Connectors
pins: 1 CAGE (power), 2 CAGE (power), 3 CAGE (power), 4 CAGE (power), 5 CAGE (power), 6 CAGE (power), 7 CAGE (power), 8 CAGE (power), 9 CAGE (power), 10 CAGE (power), 11 CAGE (power), 12 CAGE (power), 13 CAGE (power), 14 CAGE (power), 15 CAGE (power), 16 CAGE (power), 17 CAGE (power), 18 CAGE (power), 19 CAGE (power), 20 CAGE (power)

## SMB
designator Ant_FI?
SMB Straight Connector; LatestRevisionDate: 17-Jul-2002; LatestRevisionNote: Re-released for DXP Platform.; Publisher: Altium Limited
footprint SMB_V-RJ45 (Connector; SMB Straight)
signal-integrity model Connector
pins: 1 X, 2 Y

## SN74AUP1T157
designator U?
footprint SOT363 (Small outline 2.1mm L x 1.25mm W x 1mm H)
pins: 1 A, 2 GND, 3 B, 4 C, 5 VCC, 6 Y

## SN74LVC125A
designator U?, comment SN74LVC125AD
SN74LVC125AD 4-bit Buffer; Part Number: SN74LVC125ADR; Manufacturer: TI; Unit Cost: 0.6; Category: Integrated Circuit; Subcategory: Buffer; Manufacturer Part Number: SN74LVC125ADR; Supplier: Digikey; Supplier Part Number: 296-8453-6-ND; RoHS: Yes
footprint D-14_TI
pins: 1 ~{1OE} (in), 2 1A (in), 3 1Y (out), 4 ~{2OE} (in), 5 2A (in), 6 2Y (out), 7 GND (power), 8 3Y (out), 9 3A (in), 10 ~{3OE} (in), 11 4Y (out), 12 4A (in), 13 ~{4OE} (in), 14 VCC (power)

## SW_THT_PB_5.0mm
designator S?  Manufacturer Part Number 1: TC-37XB  Function: On/Off  (hidden comment: SW_THT_PB_5.0mm)
Switch, tact, 5.0mm stem; Manufacturer 1: Wealth Metal; SCDType: spec; Package / Case: 6.5x6.5mm; 5.0mm stem; Material: Brass/Nylon/Ag plating
footprint TACT-SWITCH-TS1143 (Bondtact sealed TH tact switch)
pins: 1, 2

## THS4501
designator U?
Differential Amplifier; Manufacturer: Texas Instruments; Manufacturer Part Number: THS4501ID; Distributor: Digikey; Distributor Part Number: 296-12936-5-ND
footprint SOIC8
pins: 1 Vin- (in), 2 Vocm (in), 3 Vs+ (power), 4 Vout+ (out), 5 Vout- (out), 6 Vs- (power), 8 Vin+ (in)

## TPS51200DRC
designator IC?, comment TPS51200DRCT
Sink/Source DDR Termination Regulator; Part Description: 3.3V Sink/Source DDR Termination Regulator; Manufacturer: TEXAS INSTRUMENTS; PressFit: No; Bonding: No; Part Number: TPS51200DRCT; Component Kind: Standard; Component Type: Standard; Device: TPS51200DRCT; Footprint: TEXAS_DRC (S-PVSON-N10); PackageDescription: SON, 0.50mm Pitch, 10-pin, 3.00mm W  X 3.00mm L X 1.00mm Height, (w/thermal tab 1.75 X 2.50 mm); Manufacturer Part Number: TPS51200DRCT; Pin Count: 11; Case: SON10; Mounted: Yes; Socket: No; SMD: Yes; Sense: No; ComponentHeight: 1mm; HelpURL: \\cern.ch\dfs\Applications\Altium\Datasheets\TPS51200DRCT.pdf; Author: CERN DEM JLC; CreateDate: 03.02.2010; LatestRevisionDate: 06.11.2013
footprint DRC10_2P4X1P65
pins: 1 REFIN (in), 2 VLDOIN (in), 3 VO (power), 4 PGND (power), 5 VOSNS (in), 6 REFOUT (out), 7 EN (in), 8 GND (power), 9 PGOOD (out), 10 VIN (in), 11 EP (power)

## TXS0102
designator U?
footprint TSSOP65P400X110-8N (TSSOP, 8 Leads, Body 3.1x3.1mm (max), lead span 4.0mm, Pitch 0.65mm, IPC Medium Density)
pins: 1 B2, 2 GND, 3 VCCA, 4 A2, 5 A1, 6 OE, 7 VCCB, 8 B1

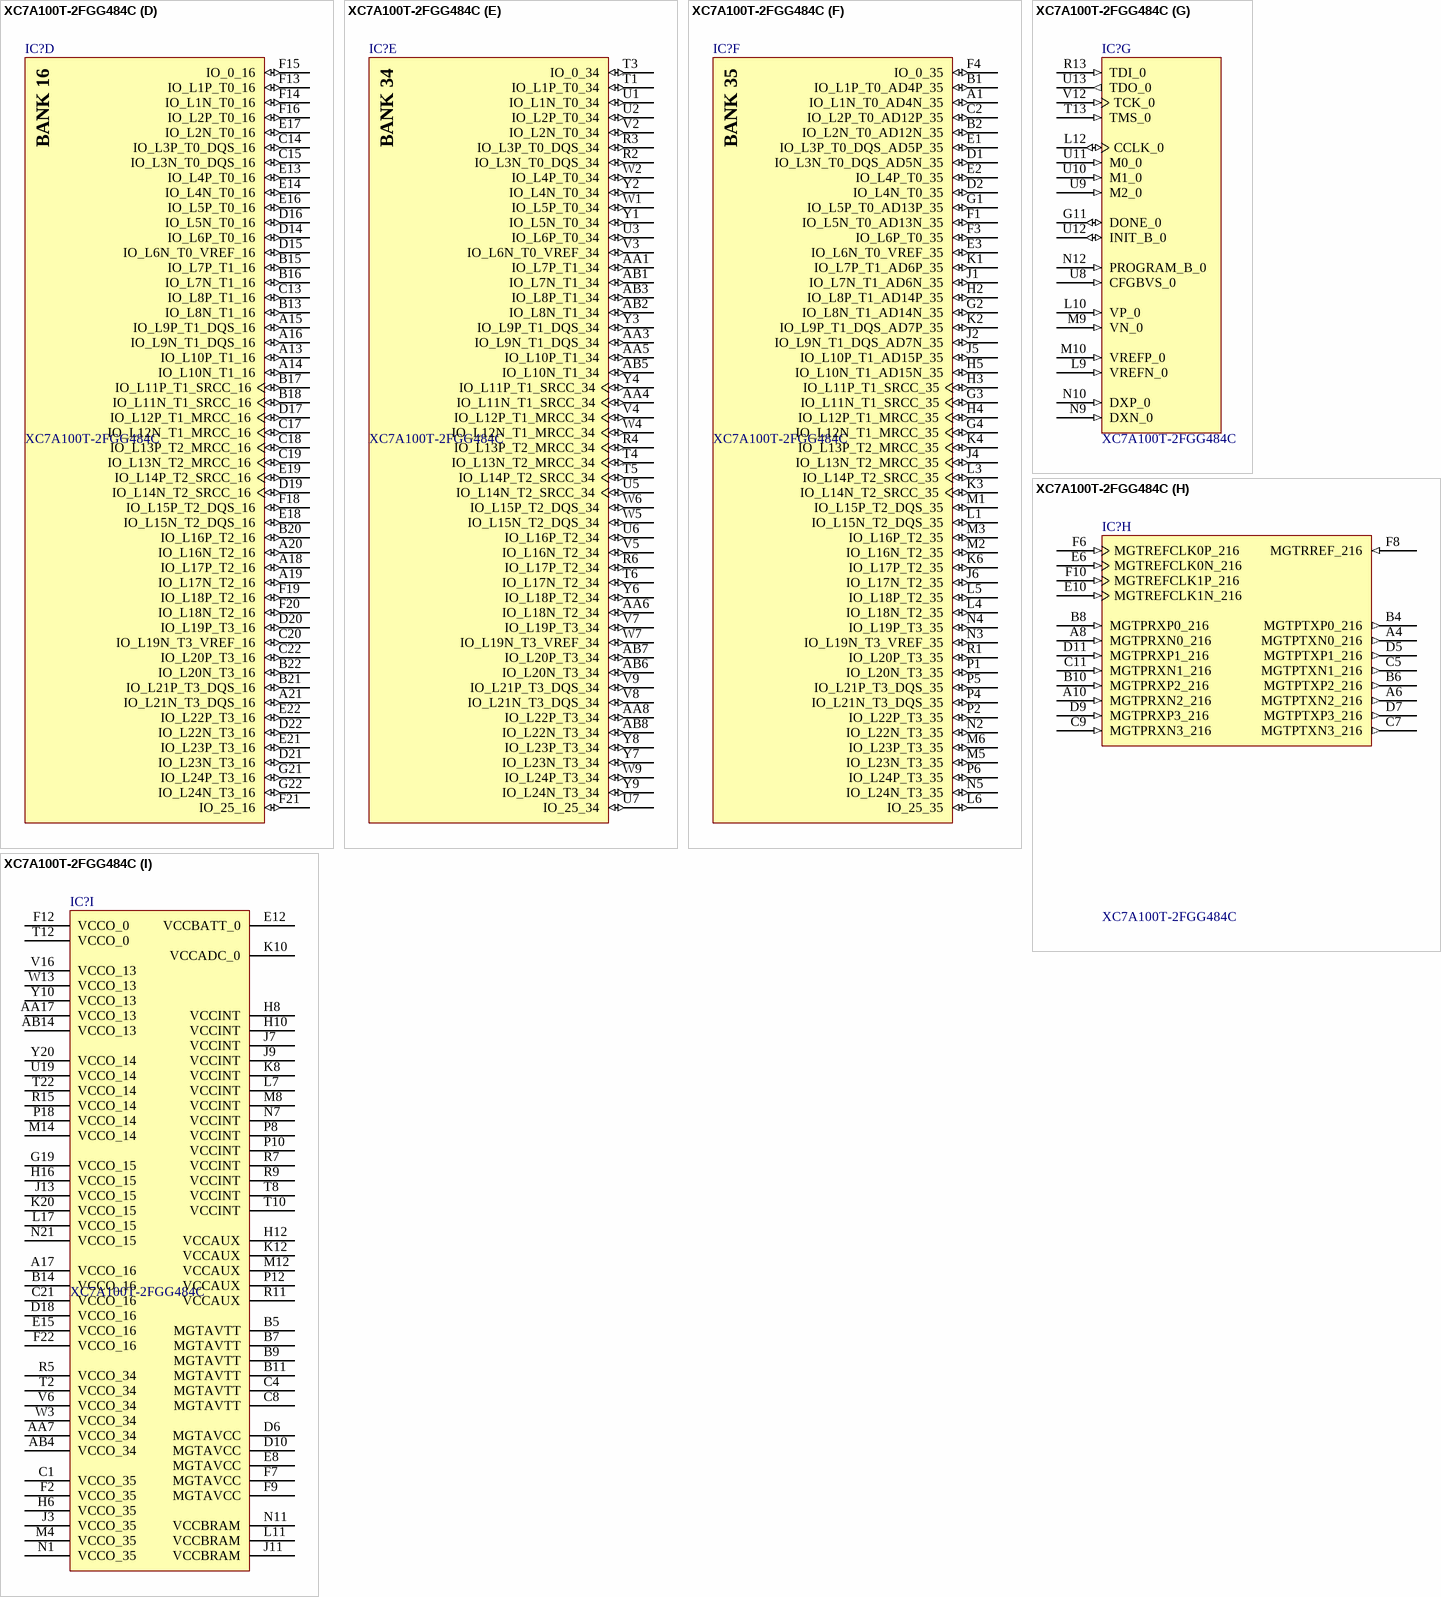
[diagram p4: symbol XC7A100T-2FGG484C]

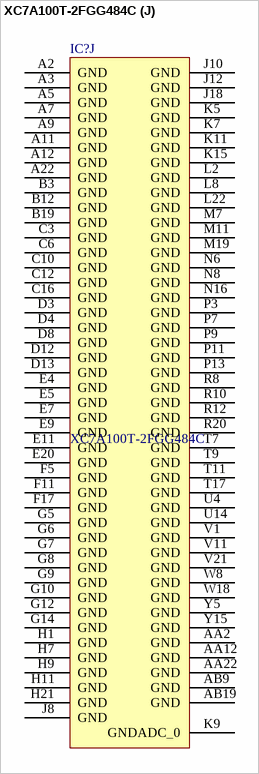
[diagram p5: symbol XC7A100T-2FGG484C]